# Altium footprint library RES.PCBLIB: 55 footprints (part 3 of 4)
Each footprint in its own frame and in the unit in brackets; x right, y up, seen from the top. Pads: shape width x height; smd on the part's side, far side on the other; paste and mask are expansions set on the pad; w line width, h text height; cw(c..) or ccw(c..) is an arc to the next point about the centre after c.
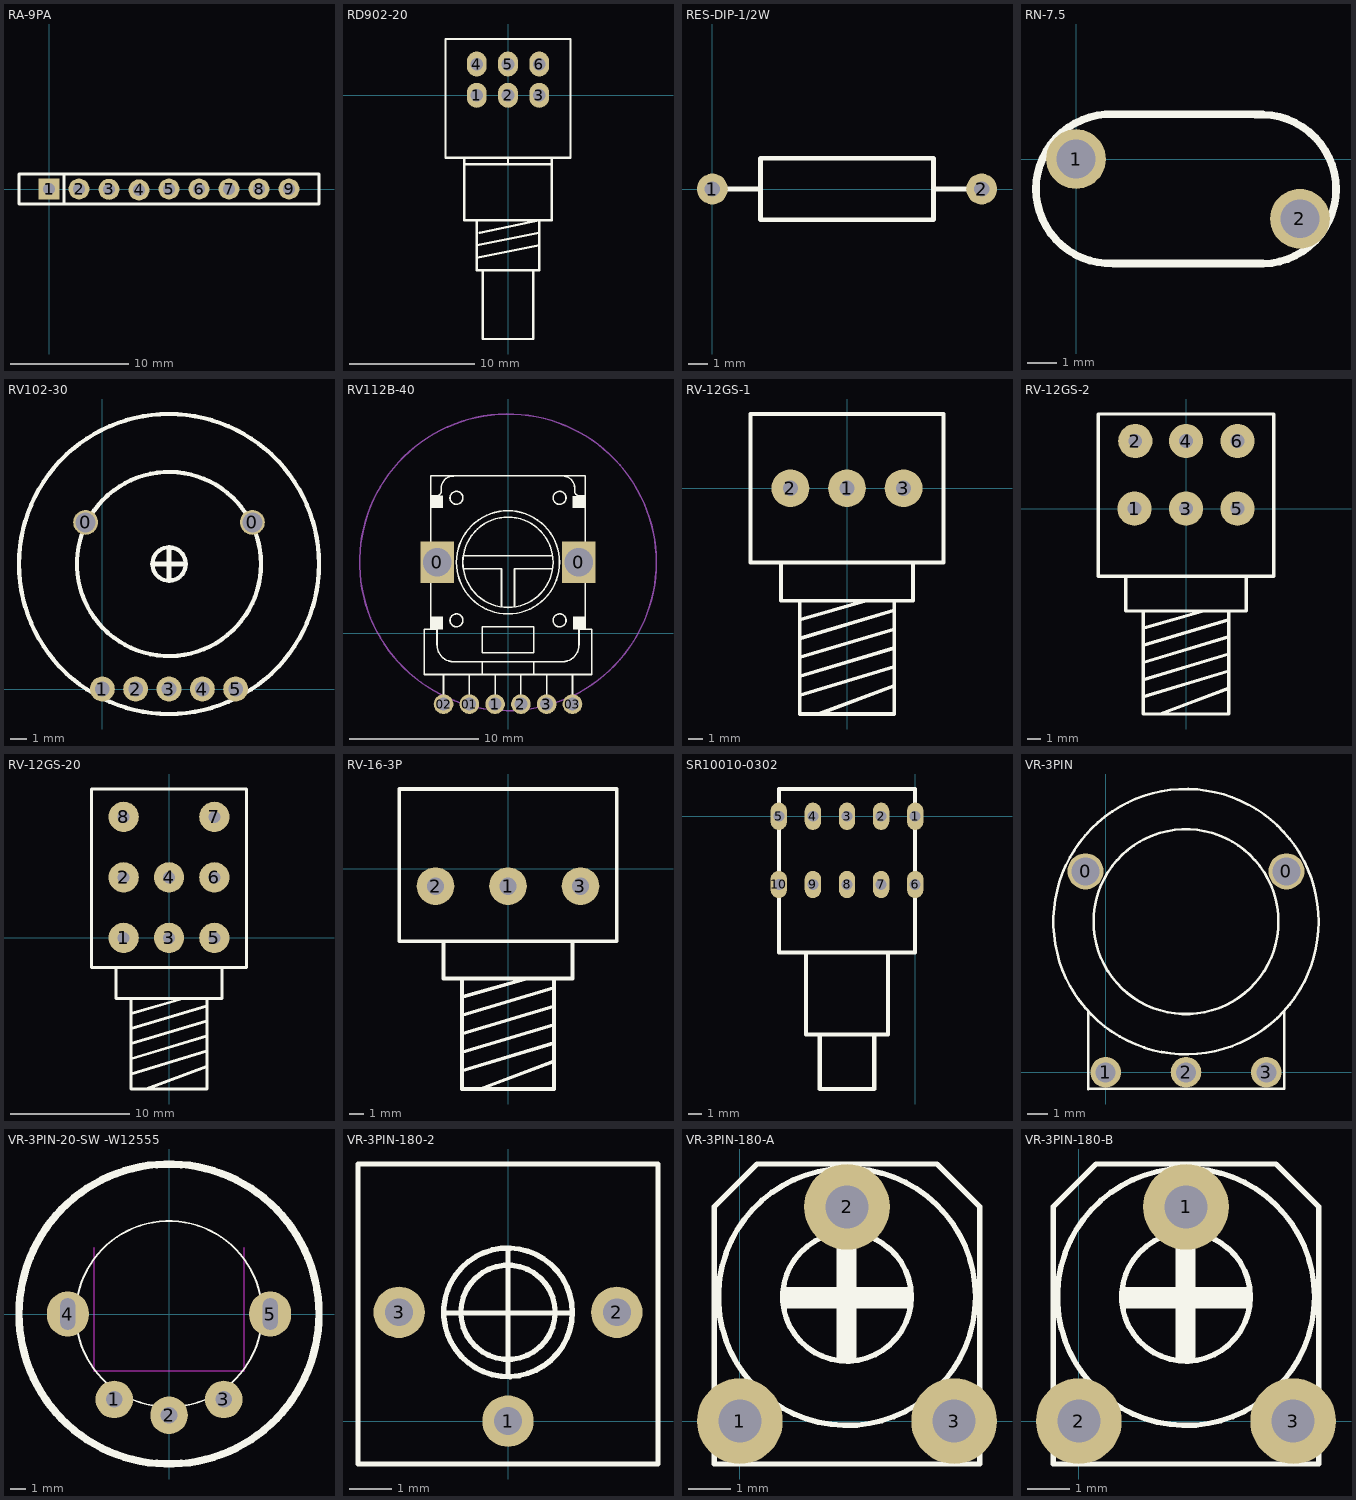
[diagram p2: the footprints below, top view; thin cyan lines are the x and y axes]

## RA-9PA [mil]
pads (9):
  rect 70x70 hole 39.37: 1(0,0)
  round 70 hole 39.37: 2(100,0) 3(200,-0.98) 4(300,-2.95) 5(400,0) 6(500,0) 7(600,0) 8(700,0) 9(800,0)
TopOverlay:
  lines w10: 50,-50 50,46.46 ; -100,-50 -100,50 900,50 900,-50 -100,-50

## RD902-20 [mm]
pads (6):
  oval 1.6x2 hole 1: 1(-2.5,0) 2(0,0) 3(2.5,0) 4(-2.5,2.5) 5(0,2.5) 6(2.5,2.5)
TopOverlay:
  lines w0.2: -3.5,-5.5 0,-5.5 ; -3.5,-5 -3.5,-10 -2.5,-10 ; -2.5,-13 2.5,-12 ; -2.5,-12 2.5,-11 ; -2.25,-11 2.5,-10 ; -2,-14 -2,-19.5 2,-19.5 2,-14 ; 3.5,-5.5 0,-5.5 ; 3.5,-5 3.5,-10 -2.5,-10 ; -2.5,-10 0,-10 2.5,-10 ; -2.5,-10 -2.5,-14 2.5,-14 2.5,-10 ; 0,-5.5 0,-5 ; 0,-5 -5,-5 -5,4.5 5,4.5 5,-5 0,-5

## RES-DIP-1/2W [mm]
pads (2):
  round 1.6 hole 0.8: 1(0,0) 2(14,0)
TopOverlay:
  lines w0.254: 0,0 2.5,0 ; 11.5,0 14,0 ; 2.5,-1.6 11.5,-1.6 11.5,1.6 2.5,1.6 2.5,-1.6

## RN-7.5 [mm]
pads (2):
  round 2 hole 1.3: 1(0,0) 2(7.5,-2)
TopOverlay:
  lines w0.254: 1.25,-3.5 6.25,-3.5 ; 1.25,-3.497 cw(c1.158,-0.998) 1.25,1.5 6.25,1.5 ; 6,-3.5 ccw(c6.208,-1.009) 6.001,1.483

## RV102-30 [mm]
pads (7):
  round 1.5 hole 1.2: 0(-1,10) 0(9,10)
  round 1.5 hole 0.889: 1(0,0) 2(2,0) 3(4,0) 4(6,0) 5(8,0)
TopOverlay:
  circle w0.254: c4,7.5 r9
  circle w0.254: c4,7.5 r1
  circle w0.254: c4,7.5 r5.523
  lines w0.3: 3,7.5 5,7.5 ; 4,6.5 4,8.5

## RV112B-40 [mm]
pads (8):
  rect 2.6x3.2 hole 2.2: 0(-5.5,5.5) 0(5.5,5.5)
  round 1.524 hole 1: 01(-3,-5.5) 1(-1,-5.5) 02(-5,-5.5) 2(1,-5.5) 3(3,-5.5) 03(5,-5.5)
TopOverlay:
  circle w0.127: c4,1 r0.5
  circle w0.127: c-4,1 r0.5
  circle w0.127: c4,10.5 r0.5
  circle w0.127: c-4,10.5 r0.5
  circle w0.127: c3.549,12.2 r0
  circle w0.127: c-5.5,10.671 r0
  circle w0.127: c-4.548,12.2 r0
  circle w0.127: c-0.002,5.5 r4
  circle w0.127: c-0.002,5.5 r3.5
  rectangle: 5.048,0.3 6,1.3
  rectangle: -5.998,0.3 -5.046,1.3
  region: 5,10.646 5,9.694 6,9.694 6,10.646
  rectangle: -6,9.696 -5.048,10.696
  lines w0.127: -6,0.3 -6,5.5 -6,12.2 6,12.2 6,5.5 6,0.3 ; -6,10.671 -5.5,10.671 ccw(c-5.5,10.996) -5.175,10.996 -5.175,11.244 cw(c-4.224,11.244) -4.224,12.196 ; -5,-5.5 -5,-3.2 ; -3.4,5 -0.5,5 -0.5,2.1 ; -3.4,6 3.4,6 ; -3,-5.5 -3,-3.2 ; -2,-3.2 -2,-2.2 ; -1,-5.5 -1,-3.2 ; 0.5,2.1 0.5,5 3.4,5 ; 1,-5.5 1,-3.2 ; 2,-3.2 2,-2.2 ; 3,-5.5 3,-3.2 ; 4.219,12.2 cw(c4.219,11.249) 5.171,11.249 5.171,11 ccw(c5.5,11) 5.5,10.671 6,10.671 ; 5,-5.5 5,-3.2 ; -6.5,-3.2 -6.5,0.3 -5.5,0.3 -5.5,-0.93 ccw(c-4.23,-0.93) -4.23,-2.2 4.23,-2.2 ccw(c4.23,-0.93) 5.5,-0.93 5.5,0.3 6.5,0.3 6.5,-3.2 -6.5,-3.2 ; -2,-1.5 -2,0.5 2,0.5 2,-1.5 -2,-1.5
KeepOutLayer:
  lines w0.127: -6.498,4.446 -6.498,6.546 -4.498,6.546 -4.498,4.446 -6.498,4.446 ; 4.498,4.446 4.498,6.546 6.498,6.546 6.498,4.446 4.498,4.446
Mechanical1:
  circle w0.127: c0,5.5 r11.5

## RV-12GS-1 [mil]
pads (3):
  round 100 hole 40: 1(0,0) 2(-150,0) 3(150,0)
TopOverlay:
  lines w10: -175,-198.43 -175,-298.43 175,-298.43 175,-198.43 ; -125,-548.43 125,-473.43 ; -125,-498.43 125,-423.43 ; -125,-448.43 125,-373.43 ; -125,-398.43 125,-323.43 ; -125,-348.43 50,-298.43 ; -125,-298.43 -125,-598.43 125,-598.43 125,-298.43 ; -50,-598.43 -75,-598.43 125,-523.43 ; -255.91,-196.85 -255.91,196.85 255.91,196.85 255.91,-196.85 -255.91,-196.85

## RV-12GS-2 [mil]
pads (6):
  round 100 hole 40: 1(-150,0) 2(-147.64,196.85) 3(0,0) 4(0,196.85) 5(150,0) 6(150,196.85)
TopOverlay:
  lines w10: -175,-198.43 -175,-298.43 175,-298.43 175,-198.43 ; -125,-548.43 125,-473.43 ; -125,-498.43 125,-423.43 ; -125,-448.43 125,-373.43 ; -125,-398.43 125,-323.43 ; -125,-348.43 50,-298.43 ; -125,-298.43 -125,-598.43 125,-598.43 125,-298.43 ; -50,-598.43 -75,-598.43 125,-523.43 ; -255.91,-196.85 255.91,-196.85 255.91,275.59 -255.91,275.59 -255.91,-196.85

## RV-12GS-20 [mil]
pads (8):
  round 100 hole 40: 1(-150,0) 2(-150,200) 3(0,0) 4(0,200) 5(150,0) 6(150,200) 7(150,400) 8(-150,400)
TopOverlay:
  lines w10: -175,-100 -175,-200 175,-200 175,-100 ; -125,-450 125,-375 ; -125,-400 125,-325 ; -125,-350 125,-275 ; -125,-300 125,-225 ; -125,-250 50,-200 ; -125,-200 -125,-500 125,-500 125,-200 ; -50,-500 -75,-500 125,-425 ; -255.91,-98.43 255.91,-98.43 255.91,492.13 -255.91,492.13 -255.91,-98.43

## RV-16-3P [mm]
pads (3):
  round 2.6 hole 1.2: 1(0,-1.2) 2(-5,-1.2) 3(5,-1.2)
TopOverlay:
  lines w0.254: -4.445,-5.04 -4.445,-7.58 4.445,-7.58 4.445,-5.04 ; -3.175,-13.93 3.175,-12.025 ; -3.175,-12.66 3.175,-10.755 ; -3.175,-11.39 3.175,-9.485 ; -3.175,-10.12 3.175,-8.215 ; -3.175,-8.85 1.27,-7.58 ; -3.175,-7.58 -3.175,-15.2 3.175,-15.2 3.175,-7.58 ; -1.27,-15.2 -1.905,-15.2 3.175,-13.295 ; -7.5,-5 -7.5,5.5 7.5,5.5 7.5,-5 -7.5,-5

## SR10010-0302 [mm]
pads (10):
  oval 1.2x2 hole 0.8: 1(0,0) 2(-2.5,0) 3(-5,0) 4(-7.5,0) 5(-10,0) 6(0,-5) 7(-2.5,-5) 8(-5,-5) 9(-7.5,-5) 10(-10,-5)
TopOverlay:
  lines w0.3: -8,-10 -8,-16 -2,-16 -2,-10 ; -7,-16 -7,-20 -3,-20 -3,-16 ; -10,-10 -10,-5 -10,2 0,2 0,-10 -10,-10

## VR-3PIN [mm]
pads (5):
  round 1.8 hole 1.4: 0(-1,10) 0(9,10)
  round 1.524 hole 1: 1(0,0) 2(4,0) 3(8,0)
TopOverlay:
  circle w0.127: c4,7.497 r6.6
  circle w0.127: c4,7.497 r4.6
  lines w0.127: -0.875,3.024 -0.875,-0.83 8.896,-0.825 8.896,3.024

## VR-3PIN-20-SW -W12555 [mm] "VR-3PIN-20-SW -W12555"
pads (5):
  round 2.5 hole 1.1: 1(-3.65,-5.7) 2(0,-6.75) 3(3.65,-5.7)
  oval 2.8x3 hole 1 slot 2.1 at 90 deg: 4(-6.75,0) 5(6.75,0)
TopOverlay:
  circle w0.5: c0,0 r10
  circle w0.127: c0,0 r6.2
KeepOutLayer:
  lines w0.127: -5,4.4 -5,-3.8 5,-3.8 5,4.4

## VR-3PIN-180-2 [mm]
pads (3):
  round 1.2 hole 0.65: 1(0,0) 2(2.54,2.54) 3(-2.54,2.54)
TopOverlay:
  circle w0.127: c0,2.54 r1.1
  circle w0.127: c0,2.54 r1.5
  lines w0.127: -1.499,2.524 1.484,2.524 ; 0,1.05 0,3.998 ; -3.5,-1 3.5,-1 3.5,6 -3.5,6 -3.5,-1

## VR-3PIN-180-A [mm]
pads (3):
  round 2 hole 1: 1(0,0) 2(2.5,5) 3(5,0)
TopOverlay:
  circle w0.127: c2.5,2.9 r1.5
  circle w0.127: c2.5,2.9 r3
  rectangle: 2.25,1.426 2.725,4.4
  rectangle: 1.026,2.626 3.974,3.126
  lines w0.127: 1.001,2.9 4,2.9 ; 2.5,1.401 2.5,4.375 ; -0.6,-1 -0.6,5 0.4,6 4.6,6 5.6,5 5.6,-1 -0.6,-1

## VR-3PIN-180-B [mm]
pads (3):
  round 2 hole 1: 1(2.5,5) 2(0,0) 3(5,0)
TopOverlay:
  circle w0.127: c2.5,2.9 r1.5
  circle w0.127: c2.5,2.9 r3
  rectangle: 2.25,1.426 2.725,4.4
  rectangle: 1.026,2.626 3.974,3.126
  lines w0.127: 1.001,2.9 4,2.9 ; 2.5,1.401 2.5,4.375 ; -0.6,-1 -0.6,5 0.4,6 4.6,6 5.6,5 5.6,-1 -0.6,-1